# EAGLE library part PIN_HEADER_16_CONDUCTOR (library main_library)
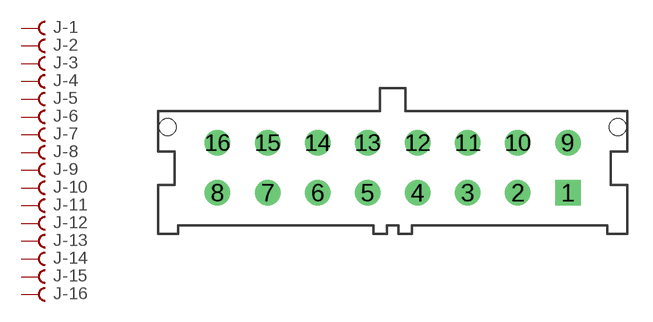
[diagram p8: symbol with the pads of AUPN6094-16_POSITION_MICROFIT_HEADER; footprint AUPN6094-16_POSITION_MICROFIT_HEADER]

Designator prefix J; gates -1=F -2=F -3=F -4=F -5=F -6=F -7=F -8=F -9=F -10=F -11=F -12=F -13=F -14=F -15=F -16=F

## PIN_HEADER_16_CONDUCTORAUPN6094 (AUPN: 6094; INCLUDE_IN_BOM: yes)  [AUPN6094-16_POSITION_MICROFIT_HEADER]
1  -1:F  pas
2  -2:F  pas
3  -3:F  pas
4  -4:F  pas
5  -5:F  pas
6  -6:F  pas
7  -7:F  pas
8  -8:F  pas
9  -9:F  pas
10  -10:F  pas
11  -11:F  pas
12  -12:F  pas
13  -13:F  pas
14  -14:F  pas
15  -15:F  pas
16  -16:F  pas

## Footprint AUPN6094-16_POSITION_MICROFIT_HEADER (pad centres in mm)
drill 1.016 square: 1 10.5,-1.5
drill 1.016: 2 7.5,-1.5; 3 4.5,-1.5; 4 1.5,-1.5; 5 -1.5,-1.5; 6 -4.5,-1.5; 7 -7.5,-1.5; 8 -10.5,-1.5; 9 10.5,1.5; 10 7.5,1.5; 11 4.5,1.5; 12 1.5,1.5; 13 -1.5,1.5; 14 -4.5,1.5; 15 -7.5,1.5; 16 -10.5,1.5
hole 1.016 at -13.5,2.44
hole 1.016 at 13.5,2.44